# Altium integrated library nxp.IntLib: 4 symbols
Pins are listed as number, name and electrical type; pins without a type are passive.

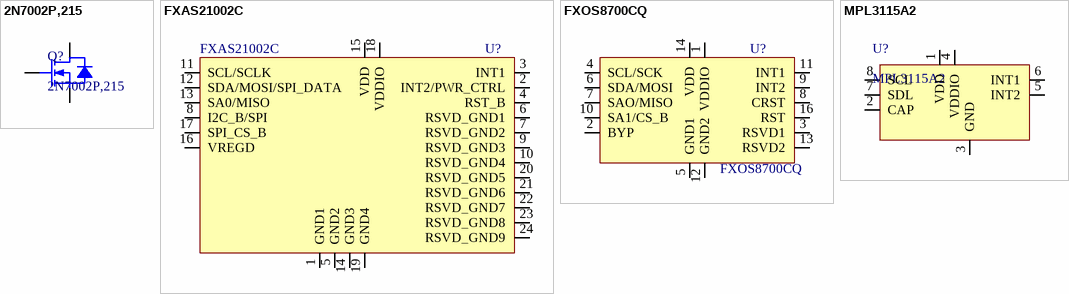
[diagram p0: symbols 2N7002P,215 to MPL3115A2]

## 2N7002P,215
designator Q?
60 V, 360 mA N-channel Trench MOSFET
footprint SOT23_N (SOT23, 3-Leads, Body 2.9x1.3mm, Pitch 0.95mm, Lead Span 2.3mm - Reverse Pinning, IPC Medium Density)
pins: 1 G, 2 S, 3 D

## FXAS21002C
designator U?
3-Axis Digital Angular Rate  Gyroscope
footprint SMD QFN 24_4X4MM 7/5
pins: 1 GND1, 2 INT2/PWR_CTRL, 3 INT1, 4 RST_B, 5 GND2, 6 RSVD_GND1, 7 RSVD_GND2, 8 I2C_B/SPI, 9 RSVD_GND3, 10 RSVD_GND4, 11 SCL/SCLK, 12 SDA/MOSI/SPI_DATA, 13 SA0/MISO, 14 GND3, 15 VDD, 16 VREGD, 17 SPI_CS_B, 18 VDDIO, 19 GND4, 20 RSVD_GND5, 21 RSVD_GND6, 22 RSVD_GND7, 23 RSVD_GND8, 24 RSVD_GND9

## FXOS8700CQ
designator U?
6-axis sensor with integrated linear accelerometer and magnetometer
footprint SMD QFN 16_3X3MM 5/3
pins: 1 VDDIO, 2 BYP, 3 RSVD1, 4 SCL/SCK, 5 GND1, 6 SDA/MOSI, 7 SAO/MISO, 8 CRST, 9 INT2, 10 SA1/CS_B, 11 INT1, 12 GND2, 13 RSVD2, 14 VDD, 16 RST

## MPL3115A2
designator U?
footprint SMD LGA 8_5X3MM
pins: 1 VDD, 2 CAP, 3 GND, 4 VDDIO, 5 INT2, 6 INT1, 7 SDL, 8 SCL